# EAGLE library part MAX98306ETD (library CYCFI_semicon)
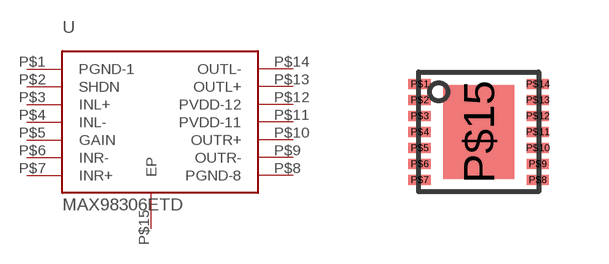
[diagram p5: symbol with the pads of TDFN-14; footprint TDFN-14]

Designator prefix -

## MAX98306ETD  [TDFN-14]
P$1  PGND-1
P$2  SHDN
P$3  INL+
P$4  INL-
P$5  GAIN
P$6  INR-
P$7  INR+
P$8  PGND-8
P$9  OUTR-
P$10  OUTR+
P$11  PVDD-11
P$12  PVDD-12
P$13  OUTL+
P$14  OUTL-
P$15  EP

## Footprint TDFN-14 (pad centres in mm)
smd 0.56 x 0.25: P$1 -1.475,1.2; P$2 -1.475,0.8; P$3 -1.475,0.4; P$4 -1.475,0; P$5 -1.475,-0.4; P$6 -1.475,-0.8; P$7 -1.475,-1.2; P$8 1.475,-1.2; P$9 1.475,-0.8; P$10 1.475,-0.4; P$11 1.475,0; P$12 1.475,0.4; P$13 1.475,0.8; P$14 1.475,1.2
smd 1.78 x 2.35: P$15 0,0